# EAGLE library part MP2209 (library Parts for D-DAQ)
2A Buck SMPS Regulator
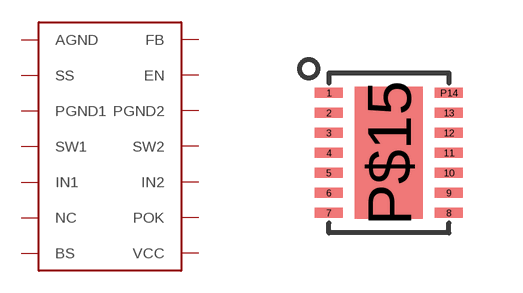
[diagram p12: symbol with the pads of QFN-14; footprint QFN-14]

Designator prefix U

## MP2209  [QFN-14]
1  AGND  pas
2  SS  in
3  PGND1  pas
4  SW1  sup
5  IN1  in
6  NC  nc
7  BS  out
8  VCC  pwr
9  POK  out
10  IN2  pwr
11  SW2  sup
12  PGND2  pas
13  EN  in
P14  FB  in
P$15  AGND  pas

## Footprint QFN-14 (pad centres in mm)
smd 0.7 x 0.25: 1 -1.5,1.5; 2 -1.5,1; 3 -1.5,0.5; 4 -1.5,0; 5 -1.5,-0.5; 6 -1.5,-1; 7 -1.5,-1.5; 8 1.5,-1.5; 9 1.5,-1; 10 1.5,-0.5; 11 1.5,0; 12 1.5,0.5; 13 1.5,1; P14 1.5,1.5
smd 1.7 x 3.3: P$15 0,0